# EAGLE library part A30605-ND (library formula electric)
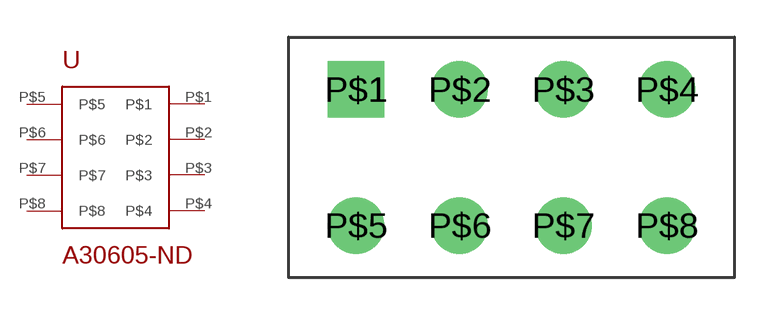
[diagram p17: symbol with the pads of A30605-ND; footprint A30605-ND]

Designator prefix -

## A30605-ND  [A30605-ND]
P$1  P$1
P$2  P$2
P$3  P$3
P$4  P$4
P$5  P$5
P$6  P$6
P$7  P$7
P$8  P$8

## Footprint A30605-ND (pad centres in mm)
drill 1.524 square: P$1 -6.287,2.756
drill 1.524: P$2 -2.095,2.756; P$3 2.095,2.756; P$4 6.287,2.756; P$5 -6.287,-2.756; P$6 -2.095,-2.756; P$7 2.095,-2.756; P$8 6.287,-2.756